# EAGLE library part MCP42100 (library iBionics)
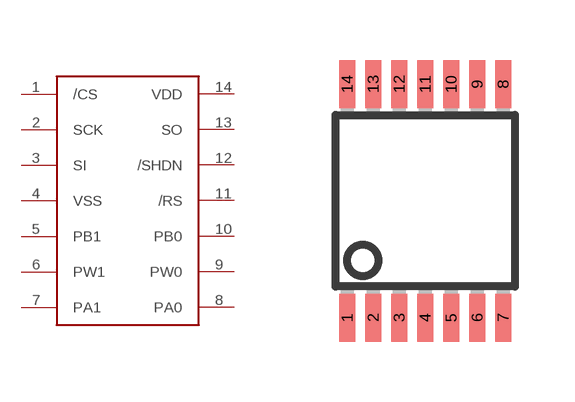
[diagram p19: symbol with the pads of SSOP14; footprint SSOP14]

Designator prefix -

## MCP42100  [SSOP14]
1  /CS
2  SCK
3  SI
4  VSS
5  PB1
6  PW1
7  PA1
8  PA0
9  PW0
10  PB0
11  /RS
12  /SHDN
13  SO
14  VDD

## Footprint SSOP14 (pad centres in mm)
Small Shrink Outline Package
smd 0.4 x 1.2: 1 -1.95,-2.925; 2 -1.3,-2.925; 3 -0.65,-2.925; 4 0,-2.925; 5 0.65,-2.925; 6 1.3,-2.925; 7 1.95,-2.925; 8 1.95,2.925; 9 1.3,2.925; 10 0.65,2.925; 11 0,2.925; 12 -0.65,2.925; 13 -1.3,2.925; 14 -1.95,2.925